# Altium schematic symbol library Schlib1.SchLib: 7 symbols
Pins are listed as number, name and electrical type; pins without a type are passive.

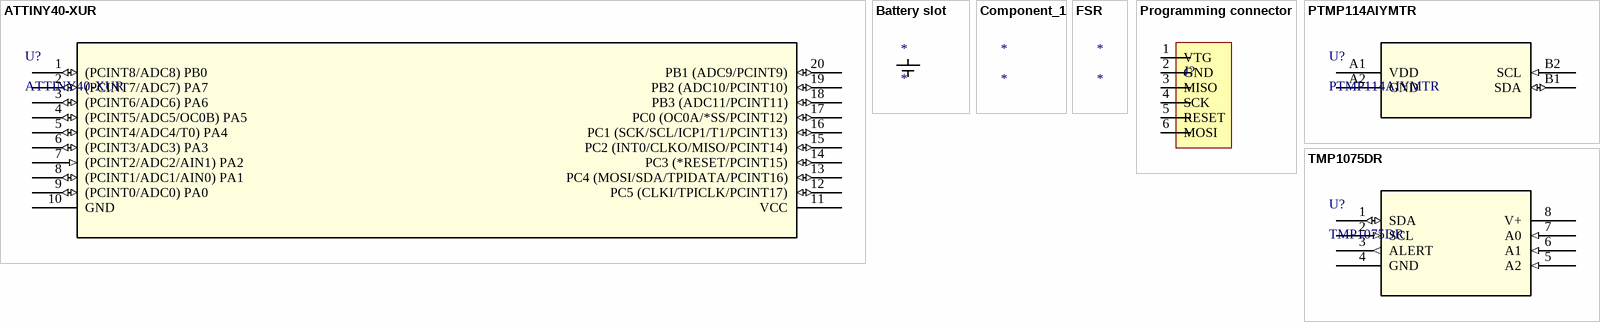
[diagram p0: symbols ATTINY40-XUR to TMP1075DR]

## ATTINY40-XUR
designator U?
No Description Available; Mfr_Name: Microchip; Copyright: Copyright (C) 2021 Ultra Librarian. All rights reserved.; Manufacturer_Part_Number: ATTINY40-XUR; RefDes: RefDes; Type: DEV
footprint TSSOP20_MC_MCH
pins: 1 (PCINT8/ADC8) PB0 (io), 2 (PCINT7/ADC7) PA7 (io), 3 (PCINT6/ADC6) PA6 (io), 4 (PCINT5/ADC5/OC0B) PA5 (io), 5 (PCINT4/ADC4/T0) PA4 (io), 6 (PCINT3/ADC3) PA3 (io), 7 (PCINT2/ADC2/AIN1) PA2 (in), 8 (PCINT1/ADC1/AIN0) PA1 (io), 9 (PCINT0/ADC0) PA0 (io), 10 GND, 11 VCC (power), 12 PC5 (CLKI/TPICLK/PCINT17) (io), 13 PC4 (MOSI/SDA/TPIDATA/PCINT16) (io), 14 PC3 (*RESET/PCINT15) (io), 15 PC2 (INT0/CLKO/MISO/PCINT14) (io), 16 PC1 (SCK/SCL/ICP1/T1/PCINT13) (io), 17 PC0 (OC0A/*SS/PCINT12) (io), 18 PB3 (ADC11/PCINT11) (io), 19 PB2 (ADC10/PCINT10) (io), 20 PB1 (ADC9/PCINT9) (io)

## Battery slot
designator *
pins: 0, 2

## Component_1
designator *

## FSR
designator *

## Programming connector
designator J?  (value not drawn)
footprint Microchip connection header
pins: 1 VTG, 2 GND, 3 MISO, 4 SCK, 5 RESET, 6 MOSI

## PTMP114AIYMTR
designator U?
No Description Available; Mfr_Name: Texas Instruments; Copyright: Copyright (C) 2021 Ultra Librarian. All rights reserved.; Manufacturer_Part_Number: PTMP114AIYMTR; RefDes: RefDes; Type: DEV
footprint PICOSTAR4_YMT_TEX
pins: A1 VDD (power), A2 GND, B1 SDA (io), B2 SCL (in)

## TMP1075DR
designator U?
No Description Available; Mfr_Name: Texas Instruments; Copyright: Copyright (C) 2021 Ultra Librarian. All rights reserved.; Manufacturer_Part_Number: TMP1075DR; RefDes: RefDes; Type: DEV
footprint D8_TEX
pins: 1 SDA (io), 2 SCL (in), 3 ALERT (out), 4 GND (power), 5 A2 (in), 6 A1 (in), 7 A0 (in), 8 V+ (power)